# Altium footprint library Discrete.PcbLib: 32 footprints (part 2 of 2)
Each footprint in its own frame and in the unit in brackets; x right, y up, seen from the top. Pads: shape width x height; smd on the part's side, far side on the other; paste and mask are expansions set on the pad; w line width, h text height; cw(c..) or ccw(c..) is an arc to the next point about the centre after c.
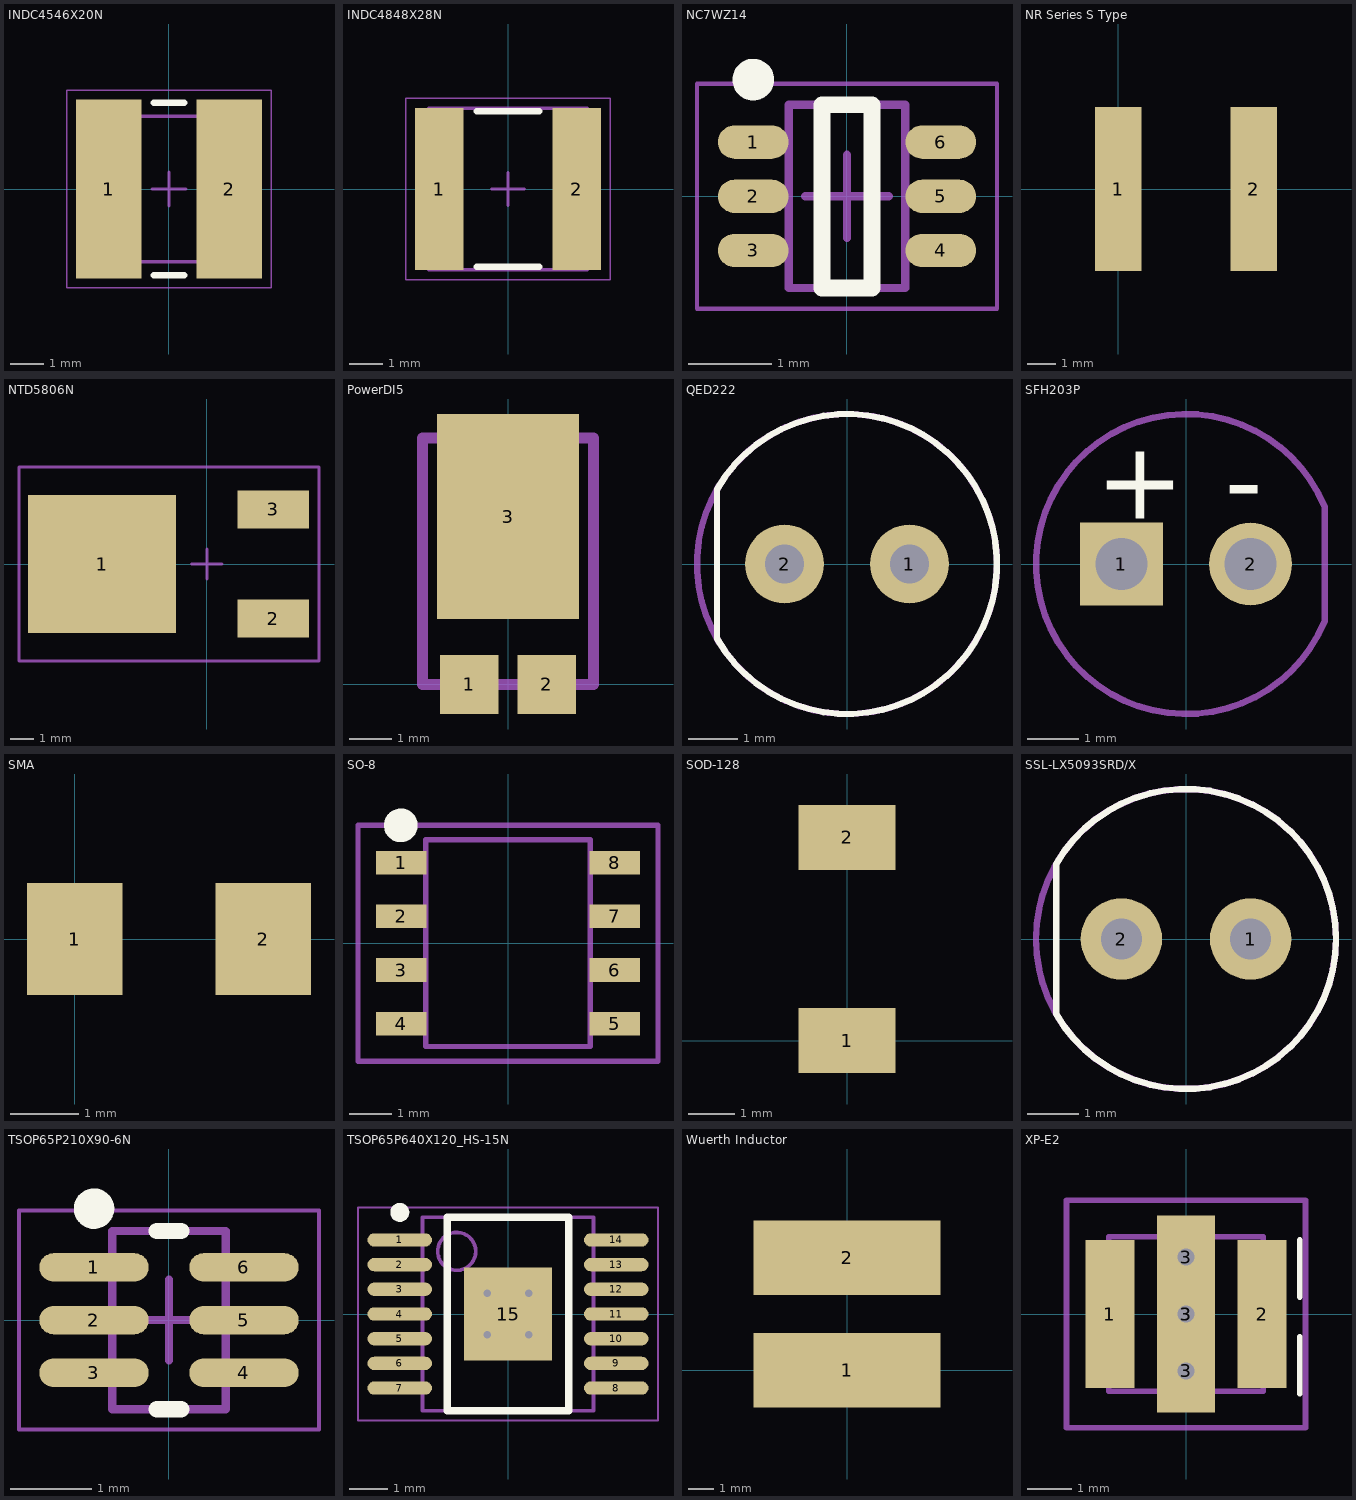
[diagram p1: the footprints below, top view; thin cyan lines are the x and y axes]

## INDC4546X20N [mm] "Chip Inductor, 2-Leads, Body 4.50x4.60mm, IPC Medium Density"
height 2
pads (2):
  rect 1.95x5.35 smd: 1(-1.8,0) 2(1.8,0)
Top Overlay:
  lines w0.2: -0.45,-2.575 0.45,-2.575 ; -0.45,2.575 0.45,2.575
Mechanical 13:
  lines w0.1: -2.375,-2.175 -2.375,2.175 2.375,2.175 2.375,-2.175 -2.375,-2.175
Mechanical 15:
  lines w0.05: -3.05,-2.95 -3.05,2.95 3.05,2.95 3.05,-2.95 -3.05,-2.95
  lines w0.1: -0.5,0 0.5,0 ; 0,-0.5 0,0.5
3D body: height 2, standoff 0, extent -1.075,-2.175 1.075,2.175
3D body: height 2, standoff 0, extent -2.375,-2.175 -1.075,2.175
3D body: height 2, standoff 0, extent 1.075,-2.175 2.375,2.175

## INDC4848X28N [mm] "Chip Inductor, 2-Leads, Body 4.75x4.80mm, IPC Medium Density"
height 2.8
pads (2):
  rect 1.48x4.92 smd: 1(-2.085,0) 2(2.085,0)
Top Overlay:
  lines w0.2: -0.95,-2.36 0.95,-2.36 ; -0.95,2.36 0.95,2.36
Mechanical 13:
  lines w0.1: -2.4,-2.45 -2.4,2.45 2.4,2.45 2.4,-2.45 -2.4,-2.45
Mechanical 15:
  lines w0.05: -3.1,-2.75 -3.1,2.75 3.1,2.75 3.1,-2.75 -3.1,-2.75
  lines w0.1: -0.5,0 0.5,0 ; 0,-0.5 0,0.5
3D body: height 2.8, standoff 0, extent -1.4,-2.45 1.4,2.45
3D body: height 2.8, standoff 0, extent -2.4,-2.45 -1.4,2.45
3D body: height 2.8, standoff 0, extent 1.4,-2.45 2.4,2.45

## NC7WZ14 [mm] "TinyLogic Dual Inverter with Schmitt trigger inputs, IPC Compliant"
height 1
pads (6):
  oval 0.85x0.4 smd: 1(-1.125,0.65) 2(-1.125,0) 3(-1.125,-0.65) 4(1.125,-0.65) 5(1.125,0) 6(1.125,0.65)
Top Overlay:
  circle w0.25: c-1.125,1.4 r0.125
  lines w0.2: -0.3,-1.1 0.3,-1.1 0.3,1.1 -0.3,1.1 -0.3,-1.1
Mechanical 13:
  lines w0.1: -0.7,-1.1 0.7,-1.1 0.7,1.1 -0.7,1.1 -0.7,-1.1
Mechanical 15:
  lines w0.05: -1.8,-1.35 1.8,-1.35 1.8,1.35 -1.8,1.35 -1.8,-1.35
  lines w0.1: -0.5,0 0.5,0 ; 0,-0.5 0,0.5
3D body: height 1, standoff 0, extent -0.7,-1.1 0.7,1.1

## NR Series S Type [mm] "SMD Power Inductor"
height 4.5
pads (2):
  rect 1.6x5.7 smd: 1(0,0) 2(4.7,0)

## NTD5806N [mm] "Power MOSFET, 40V, 33A, N-Channel DPAK"
height 2.38
pads (3):
  rect 6.2x5.8 smd: 1(-4.39,0)
  rect 3x1.6 smd: 2(2.79,-2.285) 3(2.79,2.285)
Mechanical 15:
  lines w0.127: -0.635,0 0.635,0 ; 0,-0.635 0,0.635 ; -7.874,-4.064 -7.874,4.064 4.699,4.064 4.699,-4.064 -7.874,-4.064
3D body: height 2.38, standoff 0, extent -6.22,-3.815 0,3.815

## PowerDI5 [mm] "Three terminal Schottky Diode Array"
height 1.15
pads (3):
  rect 1.39x1.4 smd: 1(-0.92,0) 2(0.92,0)
  rect 3.36x4.86 smd: 3(0,3.982)
Mechanical 1:
  lines w0.254: -2.025,0 2.025,0 2.025,5.842 -2.025,5.842 -2.025,0

## QED222 [mm] "2 lead, through hole LED"
height 8.77
pads (2):
  round 1.6 hole 0.8: 1(1.27,0) 2(-1.27,0)
Top Overlay:
  lines w0.127: -2.641,-1.525 ccw(c0,0) -2.641,1.525 -2.641,-1.525
Mechanical 1:
  circle w0.127: c0,0 r3.05

## SFH203P [mil] "Photodetector Diode"
height 196.85
pads (2):
  rect 64x64 hole 40: 1(-50,0)
  round 64 hole 40: 2(50,0)
Top Overlay:
  text "-" at 30,35 h60
  text "+" at -70,35 h60
Mechanical 1:
  lines w5: 107.3,-44.45 cw(c0,0) 107.3,44.45 107.3,-44.45
3D body: height 45.28, standoff 0, extent -115.22,-115.91 116.15,115.92
3D body: height 242.13, standoff 45.28, extent -99.59,-100.19 100.4,100.2

## SMA [mm] "DO-214AC Diode (SMA)"
height 2.45
pads (2):
  rect 1.4x1.64 smd: 1(0,0) 2(2.77,0)

## SO-8 [mm] "8 Pin, Small Outline, 3.9x4.9mm"
height 1.75
pads (8):
  rect 1.194x0.559 smd: 1(-2.528,1.905) 2(-2.528,0.635) 3(-2.528,-0.635) 4(-2.528,-1.905) 5(2.528,-1.905) 6(2.528,-0.635) 7(2.528,0.635) 8(2.528,1.905)
Top Overlay:
  circle w0.4: c-2.54,2.794 r0.2
Mechanical 1:
  lines w0.127: -1.95,-2.45 -1.95,2.45 1.95,2.45 1.95,-2.45 -1.95,-2.45
Mechanical 15:
  lines w0.127: -3.556,-2.794 3.556,-2.794 3.556,2.794 -3.556,2.794 -3.556,-2.794
3D body: height 1.75, standoff 0, extent -1.95,-2.45 1.95,2.45

## SOD-128 [mm] "Two terminal Schottky Diode"
height 0.85
pads (2):
  rect 2.1x1.4 smd: 1(0,0) 2(0,4.4)

## SSL-LX5093SRD/X [mm] "Through hole LED"
height 8.6
pads (2):
  round 1.6 hole 0.8: 1(1.27,0) 2(-1.27,0)
Top Overlay:
  lines w0.127: -2.555,-1.475 ccw(c0,0) -2.555,1.475 -2.555,-1.475
Mechanical 1:
  circle w0.127: c0,0 r2.95

## TSOP65P210X90-6N [mm] "TSOP, 6-Leads, Body 2.00x1.25mm, Pitch 0.65mm, IPC Medium Density"
height 0.9
pads (6):
  oval 1.35x0.35 smd: 1(-0.925,0.65) 2(-0.925,0) 3(-0.925,-0.65) 4(0.925,-0.65) 5(0.925,0) 6(0.925,0.65)
Top Overlay:
  circle w0.25: c-0.925,1.375 r0.125
  lines w0.2: -0.15,-1.1 0.15,-1.1 ; -0.15,1.1 0.15,1.1
Mechanical 13:
  lines w0.1: -0.7,-1.1 -0.7,1.1 0.7,1.1 0.7,-1.1 -0.7,-1.1
Mechanical 15:
  lines w0.05: -1.85,-1.35 -1.85,1.35 1.85,1.35 1.85,-1.35 -1.85,-1.35
  lines w0.1: -0.5,0 0.5,0 ; 0,-0.5 0,0.5
3D body: height 0.9, standoff 0, extent -0.7,-1.1 0.7,1.1

## TSOP65P640X120_HS-15N [mm] "TSOP, 14-Leads, Body 5.00x4.40mm, Pitch 0.65mm, Thermal Pad 2.46.2x2.31.2mm, IPC Medium Density"
height 1.2
pads (15):
  oval 1.7x0.35 smd: 1(-2.85,1.95) 2(-2.85,1.3) 3(-2.85,0.65) 4(-2.85,0) 5(-2.85,-0.65) 6(-2.85,-1.3) 7(-2.85,-1.95) 8(2.85,-1.95) 9(2.85,-1.3) 10(2.85,-0.65) 11(2.85,0) 12(2.85,0.65) 13(2.85,1.3) 14(2.85,1.95)
  rect 2.31x2.46 smd: 15(0,0)
via -0.55,0.55 diameter 0.5 hole 0.2
via 0.55,0.55 diameter 0.5 hole 0.2
via -0.55,-0.55 diameter 0.5 hole 0.2
via 0.55,-0.55 diameter 0.5 hole 0.2
Top Overlay:
  circle w0.25: c-2.85,2.675 r0.125
  lines w0.2: -1.6,-2.55 -1.6,2.55 1.6,2.55 1.6,-2.55 -1.6,-2.55
Mechanical 13:
  circle w0.1: c-1.35,1.65 r0.5
  lines w0.1: -2.25,-2.55 -2.25,2.55 2.25,2.55 2.25,-2.55 -2.25,-2.55
Mechanical 15:
  lines w0.05: -3.95,-2.8 -3.95,2.8 3.95,2.8 3.95,-2.8 -3.95,-2.8
  lines w0.1: -0.5,0 0.5,0 ; 0,-0.5 0,0.5
3D body: height 1.2, standoff 0.05, extent -2.25,-2.55 2.25,2.55

## Wuerth Inductor [mm] "Wuerth Shielded Power Inductor"
height 5
pads (2):
  rect 7.5x3 smd: 1(0,0) 2(0,4.5)

## XP-E2 [mil] "Three terminal Cree LED"
height 88.98
pads (6):
  rect 43.31x129.92 smd: 1(-66.93,0) 2(66.93,0)
  round 35 hole 15: 3(0,-50) 3(0,0) 3(0,50)
  rect 51.18x173.23 smd: 3(0,0)
Top Overlay:
  lines w5: 100,-70 100,-20 ; 100,15 100,65
Mechanical 1:
  lines w5: -67.91,-67.91 67.91,-67.91 67.91,67.91 -67.91,67.91 -67.91,-67.91
Mechanical 15:
  lines w5: -105,-100 105,-100 105,100 -105,100 -105,-100
3D body: height 28.74, standoff 0, extent -67.91,-67.91 67.91,67.91
3D body: height 117.72, standoff 28.74, extent -67.38,-67.78 67.92,67.78